# Altium schematic symbol library LIS2MDL.SchLib: 1 symbol
Pins are listed as number, name and electrical type; pins without a type are passive.

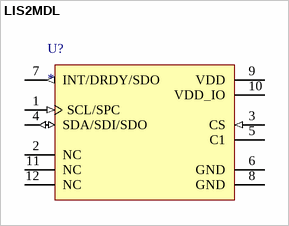
[diagram p0: symbol LIS2MDL]

## LIS2MDL
designator U?
SENSOR MR I2C/SPI 12LGA
footprint LIS2MDL
pins: 1 SCL/SPC (in) "I2C serial clock (SCL) / SPI serial port clock (SPC)", 2 NC "Internally not connected. Can be tied to Vdd, Vdd_IO or GND.", 3 CS (in) "I2C/SPI mode selection (0 = SPI, 1 = I2C)", 4 SDA/SDI/SDO (io) "I2C serial data (SDA) / SPI serial data input (SDI) / 3-wire interface serial data output (SDO)", 5 C1 "Capacitor connection (C1 = 220 nF)", 6 GND (power) "Connected to GND", 7 INT/DRDY/SDO (out) "Interrupt/data-ready signal or SDO line for 4-wire SPI connection", 8 GND (power) "Connected to GND", 9 VDD (power) "Power supply", 10 VDD_IO (power), 11 NC "Internally not connected. Can be tied to Vdd, Vdd_IO or GND.", 12 NC "Internally not connected. Can be tied to Vdd, Vdd_IO or GND."